# EAGLE library part 640456-7 (library con-tycoelectronics)
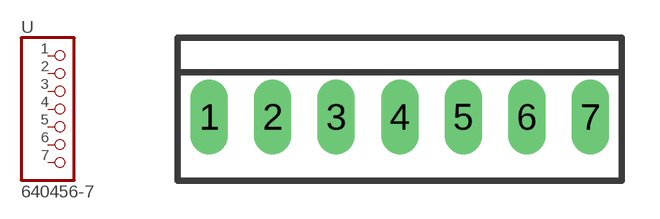
[diagram p1: symbol with the pads of 22-23-2071; footprint 22-23-2071]

Designator prefix -

## 640456-7  [22-23-2071]
1  1  pas
2  2  pas
3  3  pas
4  4  pas
5  5  pas
6  6  pas
7  7  pas

## Footprint 22-23-2071 (pad centres in mm)
.100" (2.54mm) Center Header - 7 Pin
drill 1 long: 1 -7.62,0; 2 -5.08,0; 3 -2.54,0; 4 0,0; 5 2.54,0; 6 5.08,0; 7 7.62,0